# Altium integrated library MBR735G.IntLib: 1 symbol
Pins are listed as number, name and electrical type; pins without a type are passive.

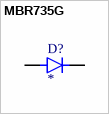
[diagram p0: symbol MBR735G]

## MBR735G
designator D?
Diode Schottky 35 V 7.5A Through Hole TO-220-2; MF: ON Semiconductor; MP: MBR735G; Check_prices: https://www.snapeda.com/parts/MBR735G/Onsemi/view-part/?ref=eda; Price: None; Purchase-URL: https://pricing.snapeda.com/search/part/MBR735G/?ref=eda; SnapEDA_Link: https://www.snapeda.com/parts/MBR735G/Onsemi/view-part/?ref=snap; Package: TO-220-2 ON Semiconductor; Availability: In Stock; Value: *
footprint TO508P1050X476X2020-2
pins: 1 C, 3 A